# EAGLE library part CON_USB_4_PIN (library iSENSE_Data_Logger)
4-Pin USB Connector Various sizes.
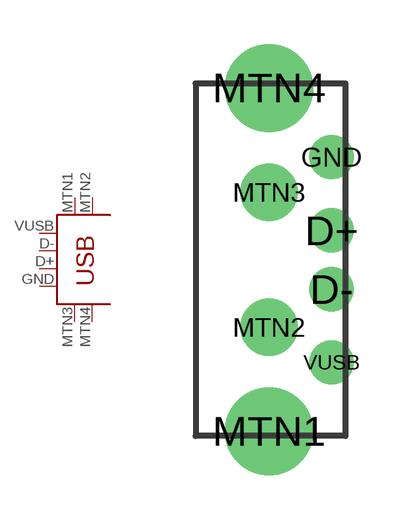
[diagram p4: symbol with the pads of CON_USB_A_MALE_CNC_TECH_1001-010-01001; footprint CON_USB_A_MALE_CNC_TECH_1001-010-01001]

Designator prefix USB

## CON_USB_4_PIN-A_MALE (PN: 1001-010-01001)  [CON_USB_A_MALE_CNC_TECH_1001-010-01001]
D+  D+
D-  D-
GND  GND  pwr
MTN1  MTN1  pas
MTN2  MTN2  pas
MTN3  MTN3  pas
MTN4  MTN4  pas
VUSB  VBUS  pwr

## Footprint CON_USB_A_MALE_CNC_TECH_1001-010-01001 (pad centres in mm)
USB A Male PCB Connector CNC Tech - Part Number 1001-010-01001
drill 1: D+ 2.13,1; D- 2.13,-1; GND 2.13,3.5; VUSB 2.13,-3.5
drill 2: MTN1 0,-5.85; MTN4 0,5.85
drill 1.3: MTN2 0,-2.3; MTN3 0,2.3